# Altium schematic symbol library Components - 08.07.23 - 17.21.SchLib: 1 symbol
Pins are listed as number, name and electrical type; pins without a type are passive.

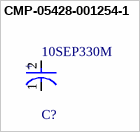
[diagram p0: symbol CMP-05428-001254-1]

## CMP-05428-001254-1
designator C?, comment 10SEP330M
Conductive Polymer Aluminum Solid Capacitors (OS-CON) 330uF ±20% 10V RADIAL TH 8x12mm; Dissipation Factor: 15%; ESR (Equivalent Series Resistance): 17mR; Polarity: Polar; Lead Diameter: 0.6mm; Life (Hours): 3000Hour; Leakage Current: 660uA; Ripple Current: 3.95A; Packaging: Bulk; Height: 12mm; Case/Package: Radial; Capacitance: 330uF; Voltage: 10V; Min Operating Temperature: -55°C; RoHS Compliant: Yes; Tolerance: 20%; REACH SVHC: No SVHC; Lead Free: Lead Free; Mount: Through Hole; Termination: Radial; Number of Pins: 12; Diameter: 8mm; Max Operating Temperature: 105°C; Lead Pitch: 3.5mm; Voltage Rating: 10V; Voltage Rating (DC): 10V; Package Quantity: 200; Length: 12mm; Series: OS-CON™, SEP; Height - Seated (Max): 0.472inch
footprint FP-OS-CON-TH-E12-d_0_6-MFG
pins: 1 C, 2 A
text: +